# Altium schematic symbol library S8050.SchLib: 1 symbol
Pins are listed as number, name and electrical type; pins without a type are passive.

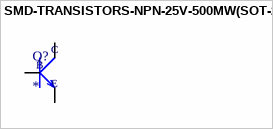
[diagram p0: symbol SMD-TRANSISTORS-NPN-25V-500MW(SOT-23)]

## SMD-TRANSISTORS-NPN-25V-500MW(SOT-23)
designator Q?
305010017; MP: S8050; MF: {'manufacturer': u'Microdiode Electronics'}; Value: *; Package: None; Price: None; Availability: Unavailable
footprint SOT-23
pins: 1 B, 2 E, 3 C